# Altium integrated library diodo_0603.IntLib: 1 symbol
Pins are listed as number, name and electrical type; pins without a type are passive.

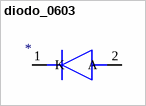
[diagram p0: symbol diodo_0603]

## diodo_0603
designator *  (value not drawn)
footprint diodo_0603
pins: 1 K, 2 A